# Altium footprint library Memory Connectors - PC Card Sockets.PcbLib: 1 footprints
Each footprint in its own frame and in the unit in brackets; x right, y up, seen from the top. Pads: shape width x height; smd on the part's side, far side on the other; paste and mask are expansions set on the pad; w line width, h text height; cw(c..) or ccw(c..) is an arc to the next point about the centre after c.
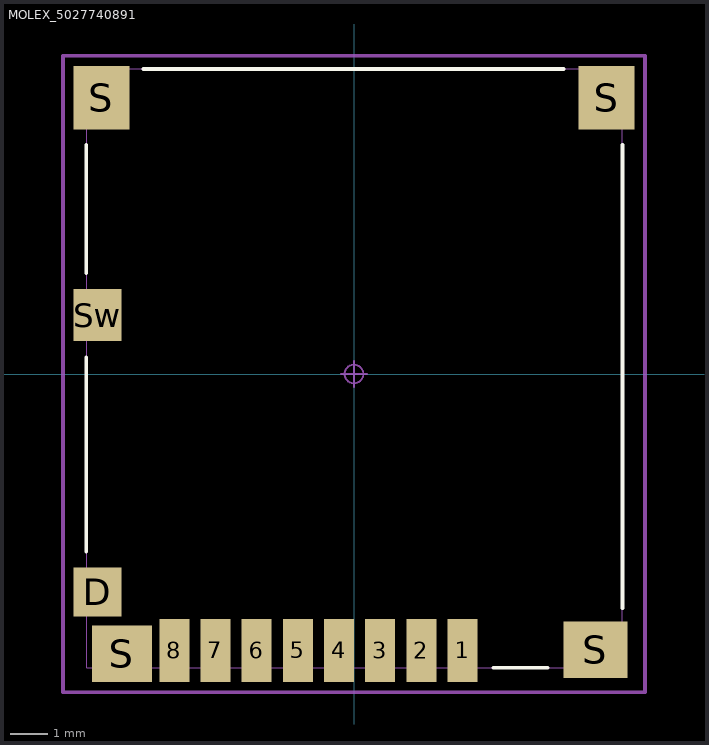
[diagram p0: the footprint, top view; thin cyan lines are the x and y axes]

## MOLEX_5027740891 [mm]
pads (14):
  rect 0.8x1.68 smd mask+0.04: 1(2.9,-7.385) 2(1.8,-7.385) 3(0.7,-7.385) 4(-0.4,-7.385) 5(-1.5,-7.385) 6(-2.6,-7.385) 7(-3.7,-7.385) 8(-4.8,-7.385)
  rect 1.29x1.3 smd mask+0.04: D(-6.855,-5.825)
  rect 1.5x1.7 smd mask+0.04: S(-6.75,7.375) S(6.75,7.375)
  rect 1.6x1.5 smd mask+0.04: S(-6.2,-7.475)
  rect 1.7x1.5 smd mask+0.04: S(6.45,-7.366)
  rect 1.29x1.4 smd mask+0.04: Sw(-6.855,1.575)
Top Overlay:
  lines w0.1: -7.15,-4.75 -7.15,0.45 ; -7.15,2.7 -7.15,6.125 ; -5.625,8.15 5.6,8.15 ; 3.725,-7.85 5.175,-7.85 ; 7.175,-6.25 7.175,6.125
Mechanical 13:
  lines w0.025: -7.137,-6.35 -6.604,-6.35 -6.604,-5.309 -7.137,-5.309 ; -7.137,0.991 -6.604,0.991 -6.604,2.159 -7.137,2.159 ; -7.124,6.738 -6.514,6.738 -6.514,8.008 -7.124,8.008 ; -6.833,-7.849 -6.833,-7.239 -5.563,-7.239 -5.563,-7.849 ; -5.08,-7.849 -5.08,-7.112 -4.521,-7.112 -4.521,-7.849 ; -3.98,-7.849 -3.98,-7.112 -3.421,-7.112 -3.421,-7.849 ; -2.88,-7.849 -2.88,-7.112 -2.321,-7.112 -2.321,-7.849 ; -1.78,-7.849 -1.78,-7.112 -1.221,-7.112 -1.221,-7.849 ; -0.68,-7.849 -0.68,-7.112 -0.121,-7.112 -0.121,-7.849 ; 0.42,-7.849 0.42,-7.112 0.979,-7.112 0.979,-7.849 ; 1.52,-7.849 1.52,-7.112 2.079,-7.112 2.079,-7.849 ; 2.62,-7.849 2.62,-7.112 3.179,-7.112 3.179,-7.849 ; 5.817,-7.849 5.817,-7.13 7.163,-7.13 ; 7.163,6.742 6.514,6.742 6.514,8.012 7.163,8.012 ; -7.137,-7.849 7.163,-7.849 7.163,8.153 -7.137,8.153 -7.137,-7.849
Mechanical 15:
  circle w0.05: c0,0 r0.25
  lines w0.05: -0.35,0 0.35,0 ; 0,-0.35 0,0.35
  lines w0.1: -7.775,-8.5 -7.775,8.5 7.775,8.5 7.775,-8.5 -7.775,-8.5
3D body "5027740891.step": height 1.78, standoff -0.02, extent -7.134,-7.85 7.166,8.15